# Altium schematic symbol library 5040500591.SchLib: 1 symbol
Pins are listed as number, name and electrical type; pins without a type are passive.

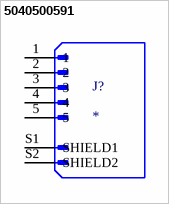
[diagram p0: symbol 5040500591]

## 5040500591
designator J?
Connector Header Surface Mount, Right Angle 5 position 0.059 (1.50mm); MP: 5040500591; MF: Molex; Purchase-URL: https://pricing.snapeda.com/search/part/5040500591/?ref=eda; Package: None; SnapEDA_Link: https://www.snapeda.com/parts/5040500591/Molex/view-part/3596761/?ref=snap; Availability: In Stock; Price: None; Value: *; Check_prices: https://www.snapeda.com/parts/5040500591/Molex/view-part/3596761/?ref=eda
footprint MOLEX_5040500591
pins: 1, 2, 3, 4, 5, S1 SHIELD1, S2 SHIELD2